# Altium schematic symbol library ic-сlock.SchLib: 3 symbols
Pins are listed as number, name and electrical type; pins without a type are passive.

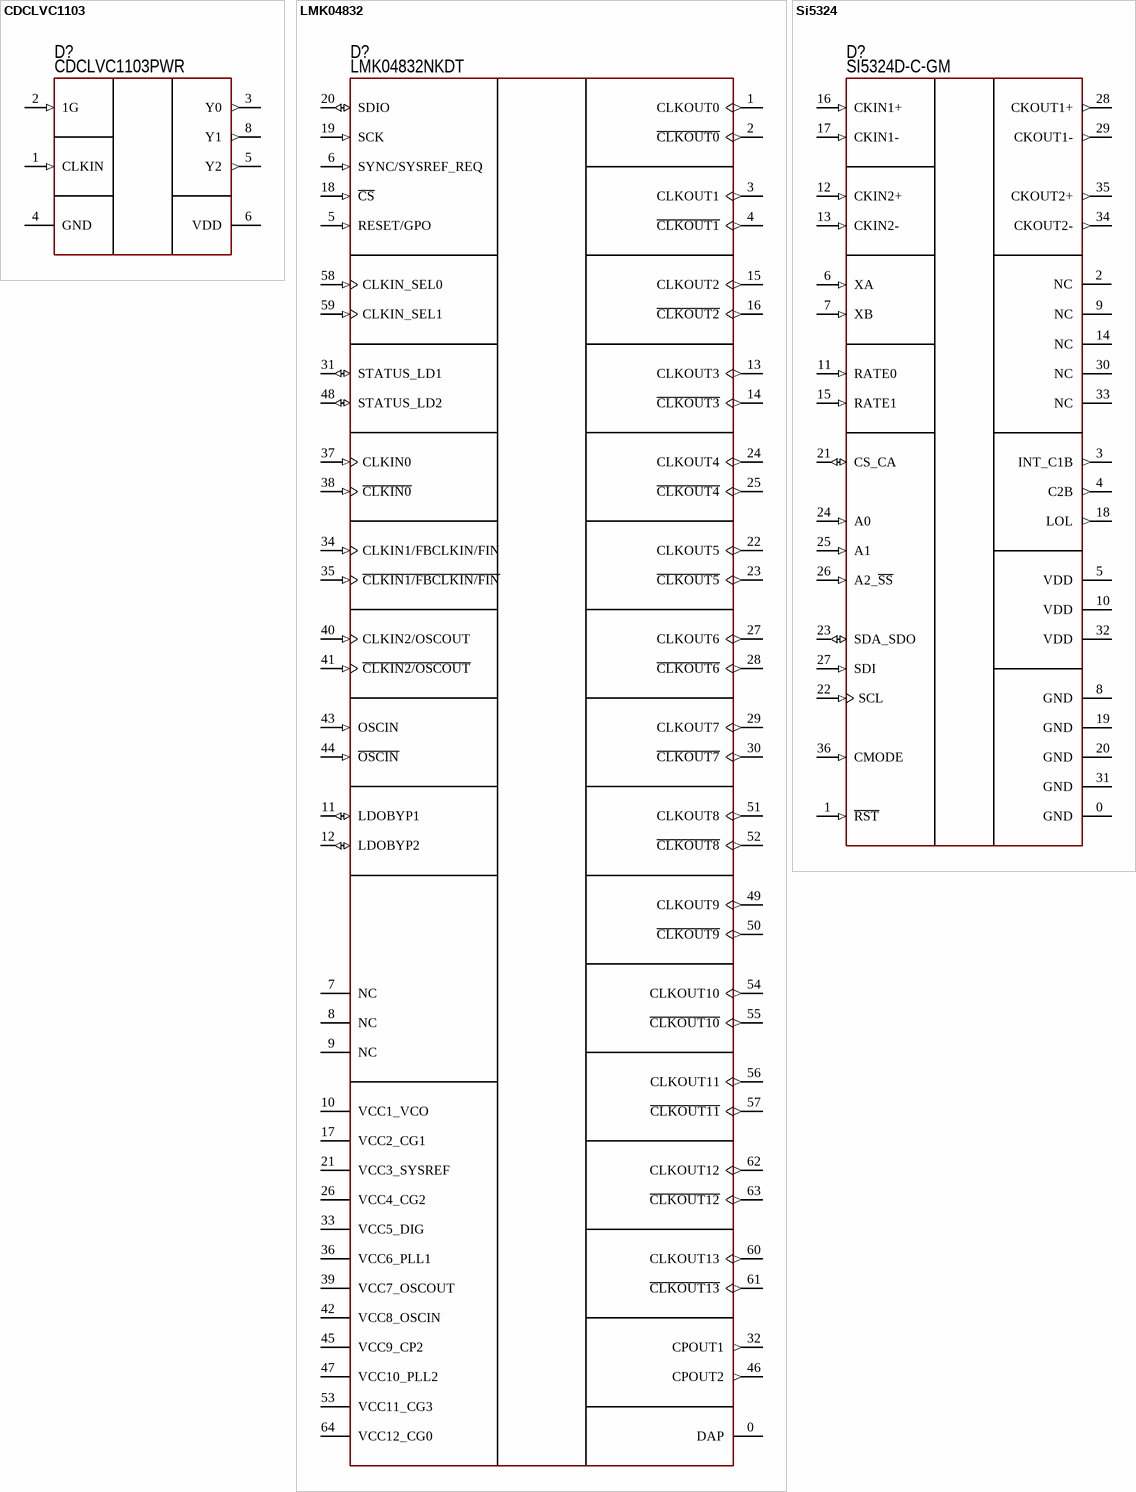
[diagram p0: symbols CDCLVC1103 to Si5324]

## CDCLVC1103
designator D?  PartNumber: CDCLVC1103PWR
Three-LVPECL Clock Buffer; Manufacturer: Texas Instruments; ValueManufacturerPartNumber: Clock Buffer, 1:3, LVCMOS/LVCMOS, 250MHz, 2ns, 2.3...3.6V, -40...+85°C, TSSOP-8; Supply: 2.3...3.6V; Ratio: 1:3; InputOutput: LVCMOS/LVCMOS; MaxFrequency: 250MHz; PropagationDelay: 2ns; HelpURL: https://www.digikey.com/en/products/detail/texas-instruments/CDCLVC1103PWR/2336534?s=N4IgTCBcDaIMIBE4BkBqcCMGAMBmACgOoBKIAugL5A; Package: TSSOP-8; ComponentType: Clock Buffer; Temperature: -40...+85°C
footprint 8-TSSOP (TSSOP, 8-Leads, Body 3,00x4,45mm, Pitch 0,65mm, IPC Medium Density)
pins: 1 CLKIN (in), 2 1G (in), 3 Y0 (out), 4 GND, 5 Y2 (out), 6 VDD (power), 8 Y1 (out)

## LMK04832
designator D?  PartNumber: LMK04832NKDT
Ultra Low-Noise Clock Jitter Cleaner with Dual Loop PLLs; Manufacturer: Texas Instruments; ValueManufacturerPartNumber: Clock Synthesizer/Jitter Cleaner, 3.25 GHz, CML, HSDS, LVCMOS, LVDS, LVPECL, 3205 MHz, 0, 3.15...3.45V, -40...+85°C, WQFN-64; Supply: 3.15...3.45V; MaxInputFreq: 3.25 GHz; Output: CML, HSDS, LVCMOS, LVDS, LVPECL; MaxOutputFreq: 3205 MHz; PropagationDelay: 0; HelpURL: https://www.mouser.co.uk/ProductDetail/Texas-Instruments/LMK04832NKDT?qs=W0yvOO0ixfHbBhqc7G%2FCdA%3D%3D; Package: WQFN-64; ComponentType: Clock Synthesizer/Jitter Cleaner; Temperature: -40...+85°C
footprint 64-WQFN (50P-900X900X80-S730) (QFN, 0.50mm Pitch, Square; 64 Pin, 9.00mm L X 9.00mm W X 0.80mm H Body (7.30mm X 7.30mm Thermal Tab), IPC Medium Density)
pins: 0 DAP (power), 1 CLKOUT0 (out), 2 ~{CLKOUT0} (out), 3 CLKOUT1 (out), 4 ~{CLKOUT1} (out), 5 RESET/GPO (in), 6 SYNC/SYSREF_REQ (in), 7 NC, 8 NC, 9 NC, 10 VCC1_VCO (power), 11 LDOBYP1 (io), 12 LDOBYP2 (io), 13 CLKOUT3 (out), 14 ~{CLKOUT3} (out), 15 CLKOUT2 (out), 16 ~{CLKOUT2} (out), 17 VCC2_CG1 (power), 18 ~{CS} (in), 19 SCK (in), 20 SDIO (io), 21 VCC3_SYSREF (power), 22 CLKOUT5 (out), 23 ~{CLKOUT5} (out), 24 CLKOUT4 (out), 25 ~{CLKOUT4} (out), 26 VCC4_CG2 (power), 27 CLKOUT6 (out), 28 ~{CLKOUT6} (out), 29 CLKOUT7 (out), 30 ~{CLKOUT7} (out), 31 STATUS_LD1 (io), 32 CPOUT1 (out), 33 VCC5_DIG (power), 34 CLKIN1/FBCLKIN/FIN (in), 35 ~{CLKIN1/FBCLKIN/FIN} (in), 36 VCC6_PLL1 (power), 37 CLKIN0 (in), 38 ~{CLKIN0} (in), 39 VCC7_OSCOUT (power), 40 CLKIN2/OSCOUT (in), 41 ~{CLKIN2/OSCOUT} (in), 42 VCC8_OSCIN (power), 43 OSCIN (in), 44 ~{OSCIN} (in), 45 VCC9_CP2 (power), 46 CPOUT2 (out), 47 VCC10_PLL2 (power), 48 STATUS_LD2 (io), 49 CLKOUT9 (out), 50 ~{CLKOUT9} (out), 51 CLKOUT8 (out), 52 ~{CLKOUT8} (out), 53 VCC11_CG3 (power), 54 CLKOUT10 (out), 55 ~{CLKOUT10} (out), 56 CLKOUT11 (out), 57 ~{CLKOUT11} (out), 58 CLKIN_SEL0 (in), 59 CLKIN_SEL1 (in), 60 CLKOUT13 (out), 61 ~{CLKOUT13} (out), 62 CLKOUT12 (out), 63 ~{CLKOUT12} (out), 64 VCC12_CG0 (power)

## Si5324
designator D?  PartNumber: SI5324D-C-GM
Any Frequency Precision Clock Multiplier/Jitter Attenuator; Manufacturer: Skyworks; ValueManufacturerPartNumber: Clock Synthesizer/Jitter Cleaner, CML, LVCMOS, LVDS, LVPECL, CMOS, 710MHz, 1.71...3.63V, -40...+85°C, QFN-36; Supply: 1.71...3.63V; OutputLevel: CML, LVCMOS, LVDS, LVPECL; InputLevel: CMOS; MaxFrequency: 710MHz; HelpURL: https://www.mouser.co.uk/ProductDetail/Skyworks-Solutions-Inc/SI5324D-C-GM?qs=p9T7GgSe1IECstMHXmB53w%3D%3D; Package: QFN-36; ComponentType: Clock Synthesizer/Jitter Cleaner; Temperature: -40...+85°C
footprint 36-QFN (50P-600X600X90-S425) (QFN, 0.50mm Pitch, Square; 36 Pin, 6.00mm L X 6.00mm W X 0.90mm H Body (w/thermal tab 4.25m x 4.25mm), IPC Medium Density)
pins: 0 GND (power), 1 ~{RST} (in), 2 NC, 3 INT_C1B (out), 4 C2B (out), 5 VDD (power), 6 XA (in), 7 XB (in), 8 GND (power), 9 NC, 10 VDD (power), 11 RATE0 (in), 12 CKIN2+ (in), 13 CKIN2- (in), 14 NC, 15 RATE1 (in), 16 CKIN1+ (in), 17 CKIN1- (in), 18 LOL (out), 19 GND (power), 20 GND (power), 21 CS_CA (io), 22 SCL (in), 23 SDA_SDO (io), 24 A0 (in), 25 A1 (in), 26 A2_~{SS} (in), 27 SDI (in), 28 CKOUT1+ (out), 29 CKOUT1- (out), 30 NC, 31 GND (power), 32 VDD (power), 33 NC, 34 CKOUT2- (out), 35 CKOUT2+ (out), 36 CMODE (in)